# EAGLE library part 87368-16 (library con-molex-milli-grid)
RECEPTACAL
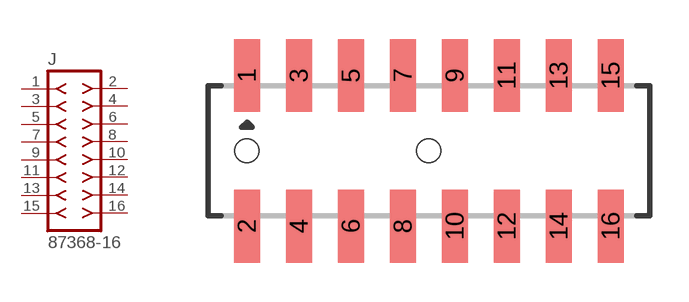
[diagram p187: symbol with the pads of 87368-16; footprint 87368-16]

Designator prefix J

## 87368-16  [87368-16]
1  1  pas
2  2  pas
3  3  pas
4  4  pas
5  5  pas
6  6  pas
7  7  pas
8  8  pas
9  9  pas
10  10  pas
11  11  pas
12  12  pas
13  13  pas
14  14  pas
15  15  pas
16  16  pas

## Footprint 87368-16 (pad centres in mm)
RECEPTACAL SMD Dual Row, Side Entry
smd 1 x 2.8: 1 -7,2.9; 2 -7,-2.9; 3 -5,2.9; 4 -5,-2.9; 5 -3,2.9; 6 -3,-2.9; 7 -1,2.9; 8 -1,-2.9; 9 1,2.9; 10 1,-2.9; 11 3,2.9; 12 3,-2.9; 13 5,2.9; 14 5,-2.9; 15 7,2.9; 16 7,-2.9
hole 0.914 at -7,0
hole 0.914 at 0,0